# EAGLE library part HRS-DF1BZ-14DP-2.5DS (library ictt-con_v5)
HRS-DF1BZ-14DP-2.5DS
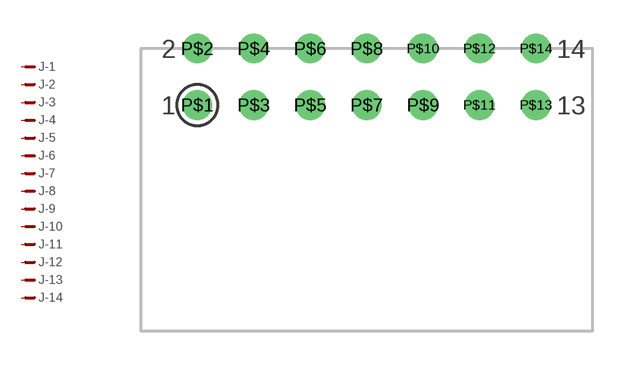
[diagram p2: symbol with the pads of DF1BZ-14DP-2.5DS; footprint DF1BZ-14DP-2.5DS]

Designator prefix J; gates -1=PIN -2=PIN -3=PIN -4=PIN -5=PIN -6=PIN -7=PIN -8=PIN -9=PIN -10=PIN -11=PIN -12=PIN -13=PIN -14=PIN

## HRS-DF1BZ-14DP-2.5DS  [DF1BZ-14DP-2.5DS]
P$1  -1:P$1
P$2  -2:P$1
P$3  -3:P$1
P$4  -4:P$1
P$5  -5:P$1
P$6  -6:P$1
P$7  -7:P$1
P$8  -8:P$1
P$9  -9:P$1
P$10  -10:P$1
P$11  -11:P$1
P$12  -12:P$1
P$13  -13:P$1
P$14  -14:P$1

## Footprint DF1BZ-14DP-2.5DS (pad centres in mm)
drill 0.8 round: P$1 -7.5,-1.25; P$2 -7.5,1.25; P$3 -5,-1.25; P$4 -5,1.25; P$5 -2.5,-1.25; P$6 -2.5,1.25; P$7 0,-1.25; P$8 0,1.25; P$9 2.5,-1.25; P$10 2.5,1.25; P$11 5,-1.25; P$12 5,1.25; P$13 7.5,-1.25; P$14 7.5,1.25